# EAGLE library part RWS (library dk30a)
RWS - UHF ASK Data Receiver Specifications can be viewed at http://computronics.com.au/module/txrxpair/
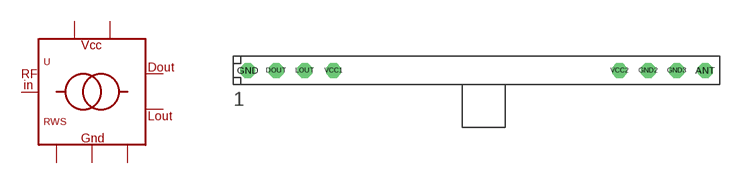
[diagram p0: symbol with the pads of RWS; footprint RWS]

Designator prefix -

## RWS"  [RWS]
ANT  ANT  in
DOUT  DOUT  out
GND  GND1  pwr
GND2  GND2  pwr
GND3  GND3  pwr
LOUT  LOUT  out
VCC1  VCC1  pwr
VCC2  VCC2  pwr

## Footprint RWS (pad centres in mm)
RWS reciever module
drill 0.813 octagon: ANT 20.32,0; DOUT -17.78,0; GND -20.32,0; GND2 15.24,0; GND3 17.78,0; LOUT -15.24,0; VCC1 -12.7,0; VCC2 12.7,0